# Altium footprint library Audio_Module.PcbLib: 2 footprints
Each footprint in its own frame and in the unit in brackets; x right, y up, seen from the top. Pads: shape width x height; smd on the part's side, far side on the other; paste and mask are expansions set on the pad; w line width, h text height; cw(c..) or ccw(c..) is an arc to the next point about the centre after c.
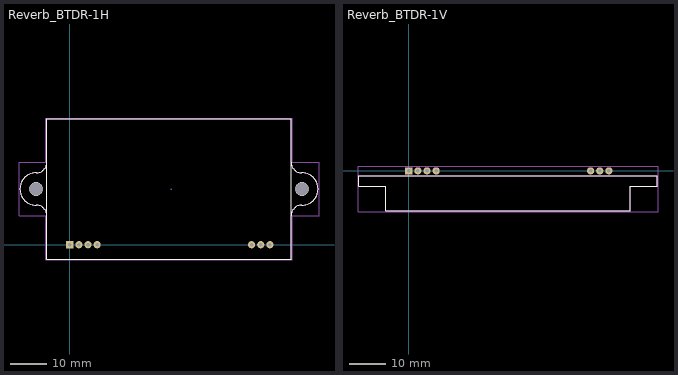
[diagram p0: the footprints below, top view; thin cyan lines are the x and y axes]

## Reverb_BTDR-1H [mm]
pads (9):
  rect 2x2 hole 1: 1(0,0)
  round 2 hole 1: 2(2.54,0) 3(5.08,0) 4(7.62,0) 5(50.62,0) 6(53.16,0) 7(55.7,0)
  round 3.7 hole 3.7: Un1(-9.38,15.5) Un2(64.62,15.5)
F.SilkS:
  circle w0.254: c64.62,15.5 r1.75
  circle w0.254: c-9.38,15.5 r1.75
  lines w0.254: -6.38,8 ccw(c-9.38,8) -9.38,11 cw(c-9.38,15.5) -9.38,20 ccw(c-9.38,23) -6.38,23 ; 61.62,8 cw(c64.62,8) 64.62,11 ccw(c64.62,15.5) 64.62,20 cw(c64.62,23) 61.62,23 ; -6.38,-4 61.62,-4 61.62,35 -6.38,35 -6.38,15.5 -6.38,-4
Top Component Center:
  lines w0.127: 28.067,15.494 28.321,15.494 ; 28.194,15.367 28.194,15.621
Top Assembly:
  lines w0.254: -9.38,11 cw(c-9.38,8) -6.38,8 -6.38,-4 61.62,-4 61.62,8 cw(c64.62,8) 64.62,11 ccw(c64.62,15.5) 64.62,20 cw(c64.62,23) 61.62,23 61.62,35 -6.38,35 -6.38,23 cw(c-9.38,23) -9.38,20 ccw(c-9.38,15.5) -9.38,11
  text "'.Designator'" at 24.953,14.66 h1
Top Courtyard:
  lines w0.254: -14.13,8 -6.63,8 -6.63,-4.25 61.87,-4.25 61.87,8 69.37,8 69.37,23 61.87,23 61.87,35.25 -6.63,35.25 -6.63,23 -14.13,23 -14.13,8
Top Designator:
  text ".Designator" at 20.002,14.992 h1.52

## Reverb_BTDR-1V [mm]
pads (7):
  rect 2x2 hole 1: 1(0,0)
  round 2 hole 1: 2(2.54,0) 3(5.08,0) 4(7.62,0) 5(50.62,0) 6(53.16,0) 7(55.7,0)
F.SilkS:
  lines w0.254: -13.88,-4.3 -6.38,-4.3 -6.38,-11.1 61.62,-11.1 61.62,-4.3 69.12,-4.3 69.12,-1.3 -13.88,-1.3 -13.88,-4.3
Top Assembly:
  lines w0.254: -13.88,-4.3 -6.38,-4.3 -6.38,-11.1 61.62,-11.1 61.62,-4.3 69.12,-4.3 69.12,-1.3 -13.88,-1.3 -13.88,-4.3
  text "'.Designator'" at 23.573,-7.04 h1
Top Courtyard:
  lines w0.254: -14.13,-11.35 -6.63,-11.35 61.62,-11.35 69.37,-11.35 69.37,1.25 -14.13,1.25 -14.13,-11.35
Top Designator:
  text ".Designator" at 20.002,-5.558 h1.52